# Altium footprint library Voltage Reference.PcbLib: 3 footprints
Each footprint in its own frame and in the unit in brackets; x right, y up, seen from the top. Pads: shape width x height; smd on the part's side, far side on the other; paste and mask are expansions set on the pad; w line width, h text height; cw(c..) or ccw(c..) is an arc to the next point about the centre after c.
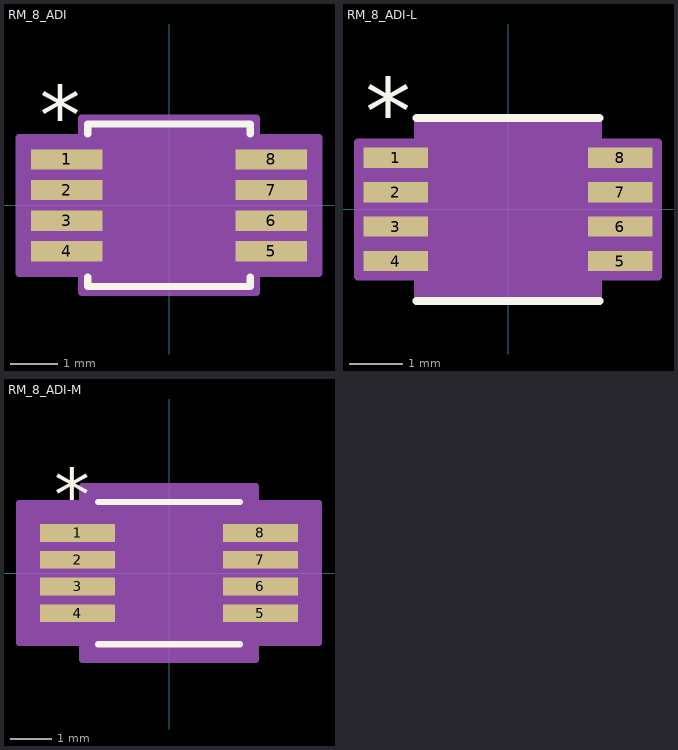
[diagram p0: the footprints below, top view; thin cyan lines are the x and y axes]

## RM_8_ADI [mil]
pads (8):
  rect 60x17 smd paste+0 mask+0: 1(-85.5,38.39) 2(-85.5,12.8) 3(-85.5,-12.8) 4(-85.5,-38.39) 5(85.5,-38.39) 6(85.5,-12.8) 7(85.5,12.8) 8(85.5,38.39)
Top Overlay:
  lines w6: -68,-59.99 -68,-68 68,-68 68,-59.99 ; -68,59.99 -68,68 68,68 68,59.99
  text "*" at -108,50.39 h50
Mechanical 13:
  lines w0: -12,63 ccw(c0,63) 12,63
  lines w1: -101.5,-45.89 -101.5,-30.89 -63,-30.89 -63,-45.89 -101.5,-45.89 ; -101.5,-20.3 -101.5,-5.3 -63,-5.3 -63,-20.3 -101.5,-20.3 ; -101.5,5.3 -101.5,20.3 -63,20.3 -63,5.3 -101.5,5.3 ; -101.5,30.89 -101.5,45.89 -63,45.89 -63,30.89 -101.5,30.89 ; -63,-63 63,-63 63,63 -63,63 -63,-63 ; 63,-45.89 63,-30.89 101.5,-30.89 101.5,-45.89 63,-45.89 ; 63,-20.3 63,-5.3 101.5,-5.3 101.5,-20.3 63,-20.3 ; 63,5.3 63,20.3 101.5,20.3 101.5,5.3 63,5.3 ; 63,30.89 63,45.89 101.5,45.89 101.5,30.89 63,30.89
  text "*" at -60.5,10 h50
Mechanical 15:
  region: -73,-56.89 -125.5,-56.89 -125.5,56.89 -73,56.89 -73,73 73,73 73,56.89 125.5,56.89 125.5,-56.89 73,-56.89 73,-73 -73,-73
  lines w6: -125.5,-56.89 -125.5,56.89 -73,56.89 -73,73 73,73 73,56.89 125.5,56.89 125.5,-56.89 73,-56.89 73,-73 -73,-73 -73,-56.89 -125.5,-56.89
3D body "RM_8_ADI.step": height 43.11, standoff 0, extent -101.5,-62.99 101.5,62.99

## RM_8_ADI-L [mil]
pads (8):
  rect 48x15 smd paste+0 mask+0: 1(-83.5,38.39) 2(-83.5,12.8) 3(-83.5,-12.8) 4(-83.5,-38.39) 5(83.5,-38.39) 6(83.5,-12.8) 7(83.5,12.8) 8(83.5,38.39)
Top Overlay:
  lines w6: -68,-68 68,-68 ; -68,68 68,68
  text "*" at -106,48.39 h50
Mechanical 13:
  lines w0: -12,63 ccw(c0,63) 12,63
  lines w1: -101.5,-45.89 -101.5,-30.89 -63,-30.89 -63,-45.89 -101.5,-45.89 ; -101.5,-20.3 -101.5,-5.3 -63,-5.3 -63,-20.3 -101.5,-20.3 ; -101.5,5.3 -101.5,20.3 -63,20.3 -63,5.3 -101.5,5.3 ; -101.5,30.89 -101.5,45.89 -63,45.89 -63,30.89 -101.5,30.89 ; -63,-63 63,-63 63,63 -63,63 -63,-63 ; 63,-45.89 63,-30.89 101.5,-30.89 101.5,-45.89 63,-45.89 ; 63,-20.3 63,-5.3 101.5,-5.3 101.5,-20.3 63,-20.3 ; 63,5.3 63,20.3 101.5,20.3 101.5,5.3 63,5.3 ; 63,30.89 63,45.89 101.5,45.89 101.5,30.89 63,30.89
  text "*" at -60.5,10 h50
Mechanical 15:
  region: -67,-49.89 -111.5,-49.89 -111.5,49.89 -67,49.89 -67,67 67,67 67,49.89 111.5,49.89 111.5,-49.89 67,-49.89 67,-67 -67,-67
  lines w6: -111.5,-49.89 -111.5,49.89 -67,49.89 -67,67 67,67 67,49.89 111.5,49.89 111.5,-49.89 67,-49.89 67,-67 -67,-67 -67,-49.89 -111.5,-49.89
3D body "RM_8_ADI.step": height 43.11, standoff 0, extent -101.5,-62.99 101.5,62.99

## RM_8_ADI-M [mil]
pads (8):
  rect 72x17 smd paste+0 mask+0: 1(-87.5,38.39) 2(-87.5,12.8) 3(-87.5,-12.8) 4(-87.5,-38.39) 5(87.5,-38.39) 6(87.5,-12.8) 7(87.5,12.8) 8(87.5,38.39)
Top Overlay:
  lines w6: -68,-68 68,-68 ; -68,68 68,68
  text "*" at -110,50.39 h50
Mechanical 13:
  lines w0: -12,63 ccw(c0,63) 12,63
  lines w1: -101.5,-45.89 -101.5,-30.89 -63,-30.89 -63,-45.89 -101.5,-45.89 ; -101.5,-20.3 -101.5,-5.3 -63,-5.3 -63,-20.3 -101.5,-20.3 ; -101.5,5.3 -101.5,20.3 -63,20.3 -63,5.3 -101.5,5.3 ; -101.5,30.89 -101.5,45.89 -63,45.89 -63,30.89 -101.5,30.89 ; -63,-63 63,-63 63,63 -63,63 -63,-63 ; 63,-45.89 63,-30.89 101.5,-30.89 101.5,-45.89 63,-45.89 ; 63,-20.3 63,-5.3 101.5,-5.3 101.5,-20.3 63,-20.3 ; 63,5.3 63,20.3 101.5,20.3 101.5,5.3 63,5.3 ; 63,30.89 63,45.89 101.5,45.89 101.5,30.89 63,30.89
  text "*" at -60.5,10 h50
Mechanical 15:
  region: -83,-66.89 -143.5,-66.89 -143.5,66.89 -83,66.89 -83,83 83,83 83,66.89 143.5,66.89 143.5,-66.89 83,-66.89 83,-83 -83,-83
  lines w6: -143.5,-66.89 -143.5,66.89 -83,66.89 -83,83 83,83 83,66.89 143.5,66.89 143.5,-66.89 83,-66.89 83,-83 -83,-83 -83,-66.89 -143.5,-66.89
3D body "RM_8_ADI.step": height 43.11, standoff 0, extent -101.5,-62.99 101.5,62.99